# Altium integrated library FPGA Generic.IntLib: 1651 symbols (part 3 of 20)
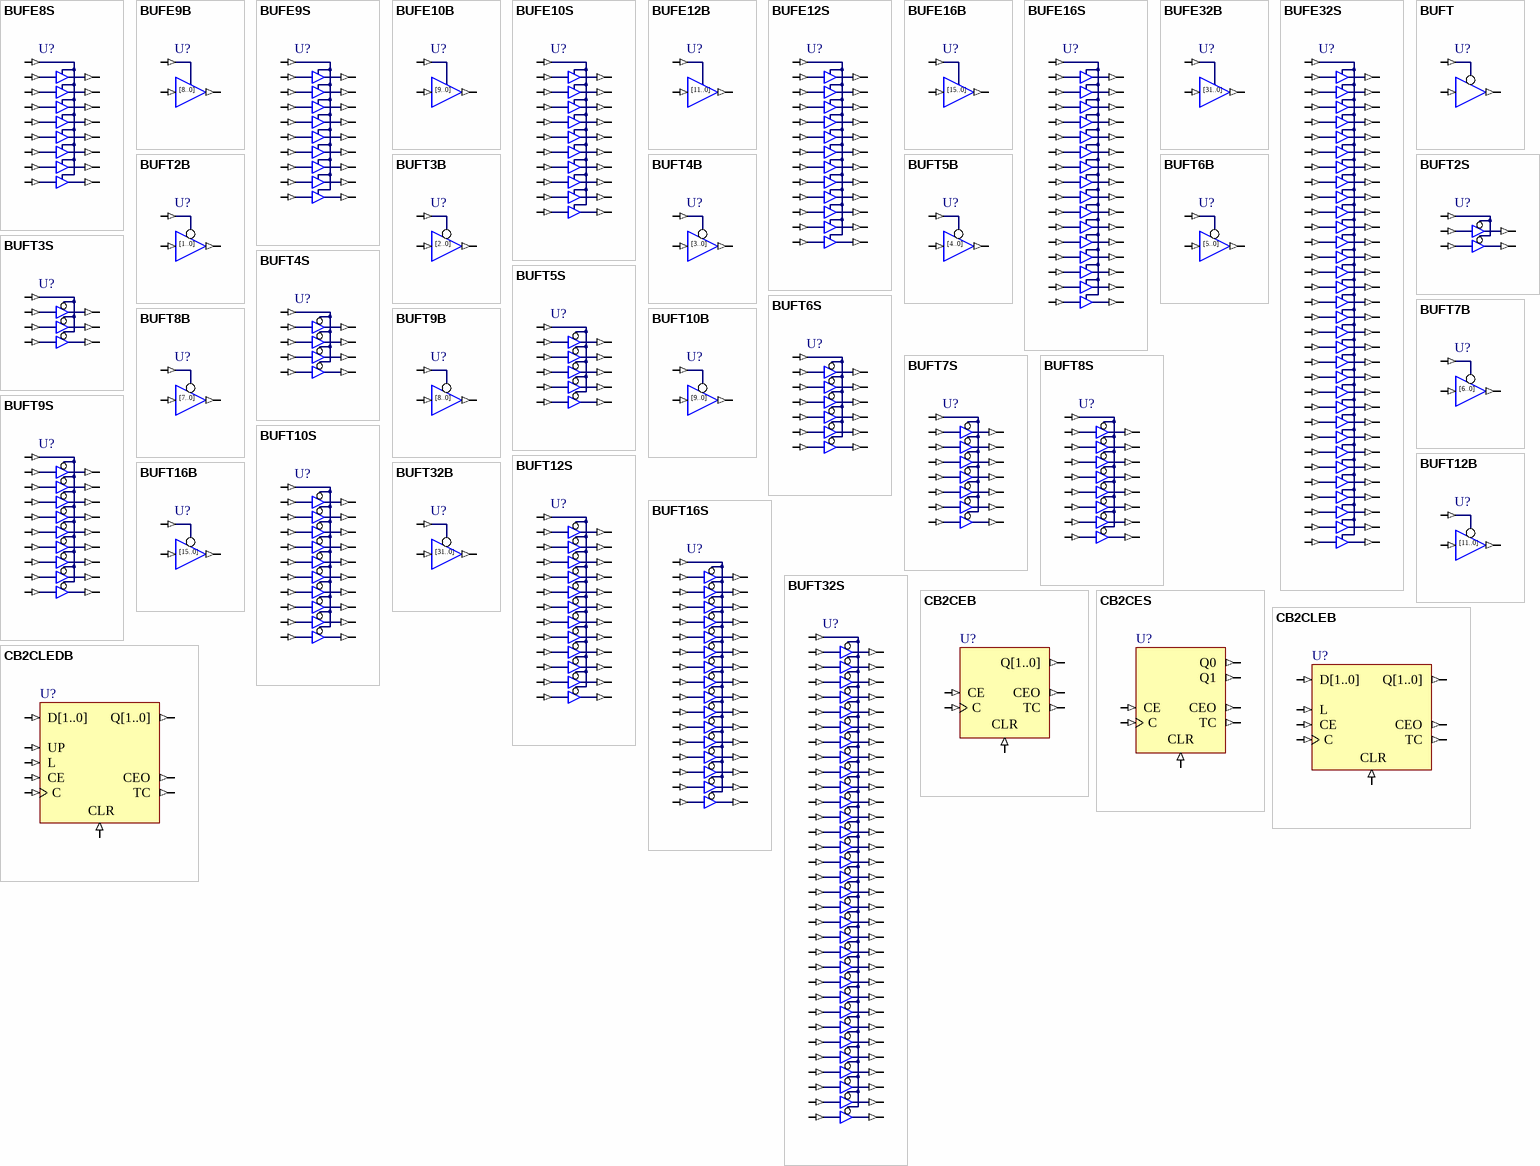
[diagram p45: symbols BUFE8S to CB2CLEDB]

## BUFT2S
designator U?
2-Bit 3-state Buffer with Active Low Enable, Single Pin Version; SubClass: BUFT; PortSize: 2; ArchiveName: GENERIC; VHDLIB_SIM: GENERIC_LIB; Published: 29-Jan-2004; Publisher: Altium Limited; LastRevisionNo: 1.00.00; HelpURL: CR0118 FPGA Generic Library Guide.pdf#page=126; ComponentLink1URL: CR0125 FPGA Buffer Resource Usage.pdf#page=55; ComponentLink1Description: Core &Resource Usage; FunctionalClass: Buffer; Enable: Low; PortStyle: Single Pin Version
pins: I0 (in), I1 (in), O0 Y0 (out), O1 Y1 (out), T (in)

## BUFT3B
designator U?
3-Bit 3-state Buffer with Active Low Enable, Bus Version; SubClass: BUFT; PortSize: 3; ArchiveName: GENERIC; VHDLIB_SIM: GENERIC_LIB; Published: 29-Jan-2004; Publisher: Altium Limited; LastRevisionNo: 1.00.00; HelpURL: CR0118 FPGA Generic Library Guide.pdf#page=126; ComponentLink1URL: CR0125 FPGA Buffer Resource Usage.pdf#page=56; ComponentLink1Description: Core &Resource Usage; FunctionalClass: Buffer; Enable: Low; PortStyle: Bus Version
pins: I[2..0] (in), O[2..0] (out), T (in)
text: [2..0]

## BUFT3S
designator U?
3-Bit 3-state Buffer with Active Low Enable, Single Pin Version; SubClass: BUFT; PortSize: 3; ArchiveName: GENERIC; VHDLIB_SIM: GENERIC_LIB; Published: 29-Jan-2004; Publisher: Altium Limited; LastRevisionNo: 1.00.00; HelpURL: CR0118 FPGA Generic Library Guide.pdf#page=126; ComponentLink1URL: CR0125 FPGA Buffer Resource Usage.pdf#page=57; ComponentLink1Description: Core &Resource Usage; FunctionalClass: Buffer; Enable: Low; PortStyle: Single Pin Version
pins: I0 (in), I1 (in), I2 (in), O0 Y0 (out), O1 Y1 (out), O2 Y2 (out), T (in)

## BUFT4B
designator U?
4-Bit 3-state Buffer with Active Low Enable, Bus Version; SubClass: BUFT; PortSize: 4; ArchiveName: GENERIC; VHDLIB_SIM: GENERIC_LIB; Published: 29-Jan-2004; Publisher: Altium Limited; LastRevisionNo: 1.00.00; HelpURL: CR0118 FPGA Generic Library Guide.pdf#page=126; ComponentLink1URL: CR0125 FPGA Buffer Resource Usage.pdf#page=58; ComponentLink1Description: Core &Resource Usage; FunctionalClass: Buffer; Enable: Low; PortStyle: Bus Version
pins: I[3..0] (in), O[3..0] (out), T (in)
text: [3..0]

## BUFT4S
designator U?
4-Bit 3-state Buffer with Active Low Enable, Single Pin Version; XilinxEquivalent: BUFT4; SubClass: BUFT; PortSize: 4; ArchiveName: GENERIC; VHDLIB_SIM: GENERIC_LIB; Published: 29-Jan-2004; Publisher: Altium Limited; LastRevisionNo: 1.00.00; HelpURL: CR0118 FPGA Generic Library Guide.pdf#page=126; ComponentLink1URL: CR0125 FPGA Buffer Resource Usage.pdf#page=59; ComponentLink1Description: Core &Resource Usage; FunctionalClass: Buffer; Enable: Low; PortStyle: Single Pin Version
pins: I0 (in), I1 (in), I2 (in), I3 (in), O0 Y0 (out), O1 Y1 (out), O2 Y2 (out), O3 Y3 (out), T (in)

## BUFT5B
designator U?
5-Bit 3-state Buffer with Active Low Enable, Bus Version; SubClass: BUFT; PortSize: 5; ArchiveName: GENERIC; VHDLIB_SIM: GENERIC_LIB; Published: 29-Jan-2004; Publisher: Altium Limited; LastRevisionNo: 1.00.00; HelpURL: CR0118 FPGA Generic Library Guide.pdf#page=126; ComponentLink1URL: CR0125 FPGA Buffer Resource Usage.pdf#page=60; ComponentLink1Description: Core &Resource Usage; FunctionalClass: Buffer; Enable: Low; PortStyle: Bus Version
pins: I[4..0] (in), O[4..0] (out), T (in)
text: [4..0]

## BUFT5S
designator U?
5-Bit 3-state Buffer with Active Low Enable, Single Pin Version; SubClass: BUFT; PortSize: 5; ArchiveName: GENERIC; VHDLIB_SIM: GENERIC_LIB; Published: 29-Jan-2004; Publisher: Altium Limited; LastRevisionNo: 1.00.00; HelpURL: CR0118 FPGA Generic Library Guide.pdf#page=126; ComponentLink1URL: CR0125 FPGA Buffer Resource Usage.pdf#page=61; ComponentLink1Description: Core &Resource Usage; FunctionalClass: Buffer; Enable: Low; PortStyle: Single Pin Version
pins: I0 (in), I1 (in), I2 (in), I3 (in), I4 (in), O0 Y0 (out), O1 Y1 (out), O2 Y2 (out), O3 Y3 (out), O4 Y4 (out), T (in)

## BUFT6B
designator U?
6-Bit 3-state Buffer with Active Low Enable, Bus Version; SubClass: BUFT; PortSize: 6; ArchiveName: GENERIC; VHDLIB_SIM: GENERIC_LIB; Published: 29-Jan-2004; Publisher: Altium Limited; LastRevisionNo: 1.00.00; HelpURL: CR0118 FPGA Generic Library Guide.pdf#page=126; ComponentLink1URL: CR0125 FPGA Buffer Resource Usage.pdf#page=62; ComponentLink1Description: Core &Resource Usage; FunctionalClass: Buffer; Enable: Low; PortStyle: Bus Version
pins: I[5..0] (in), O[5..0] (out), T (in)
text: [5..0]

## BUFT6S
designator U?
6-Bit 3-state Buffer with Active Low Enable, Single Pin Version; SubClass: BUFT; PortSize: 6; ArchiveName: GENERIC; VHDLIB_SIM: GENERIC_LIB; Published: 29-Jan-2004; Publisher: Altium Limited; LastRevisionNo: 1.00.00; HelpURL: CR0118 FPGA Generic Library Guide.pdf#page=126; ComponentLink1URL: CR0125 FPGA Buffer Resource Usage.pdf#page=63; ComponentLink1Description: Core &Resource Usage; FunctionalClass: Buffer; Enable: Low; PortStyle: Single Pin Version
pins: I0 (in), I1 (in), I2 (in), I3 (in), I4 (in), I5 (in), O0 Y0 (out), O1 Y1 (out), O2 Y2 (out), O3 Y3 (out), O4 Y4 (out), O5 Y5 (out), T (in)

## BUFT7B
designator U?
7-Bit 3-state Buffer with Active Low Enable, Bus Version; SubClass: BUFT; PortSize: 7; ArchiveName: GENERIC; VHDLIB_SIM: GENERIC_LIB; Published: 29-Jan-2004; Publisher: Altium Limited; LastRevisionNo: 1.00.00; HelpURL: CR0118 FPGA Generic Library Guide.pdf#page=126; ComponentLink1URL: CR0125 FPGA Buffer Resource Usage.pdf#page=64; ComponentLink1Description: Core &Resource Usage; FunctionalClass: Buffer; Enable: Low; PortStyle: Bus Version
pins: I[6..0] (in), O[6..0] (out), T (in)
text: [6..0]

## BUFT7S
designator U?
7-Bit 3-state Buffer with Active Low Enable, Single Pin Version; SubClass: BUFT; PortSize: 7; ArchiveName: GENERIC; VHDLIB_SIM: GENERIC_LIB; Published: 29-Jan-2004; Publisher: Altium Limited; LastRevisionNo: 1.00.00; HelpURL: CR0118 FPGA Generic Library Guide.pdf#page=126; ComponentLink1URL: CR0125 FPGA Buffer Resource Usage.pdf#page=65; ComponentLink1Description: Core &Resource Usage; FunctionalClass: Buffer; Enable: Low; PortStyle: Single Pin Version
pins: I0 (in), I1 (in), I2 (in), I3 (in), I4 (in), I5 (in), I6 (in), O0 Y0 (out), O1 Y1 (out), O2 Y2 (out), O3 Y3 (out), O4 Y4 (out), O5 Y5 (out), O6 Y6 (out), T (in)

## BUFT8B
designator U?
8-Bit 3-state Buffer with Active Low Enable, Bus Version; XilinxEquivalent: BUFT8; SubClass: BUFT; PortSize: 8; ArchiveName: GENERIC; VHDLIB_SIM: GENERIC_LIB; Published: 29-Jan-2004; Publisher: Altium Limited; LastRevisionNo: 1.00.00; HelpURL: CR0118 FPGA Generic Library Guide.pdf#page=126; ComponentLink1URL: CR0125 FPGA Buffer Resource Usage.pdf#page=66; ComponentLink1Description: Core &Resource Usage; FunctionalClass: Buffer; Enable: Low; PortStyle: Bus Version
pins: I[7..0] (in), O[7..0] (out), T (in)
text: [7..0]

## BUFT8S
designator U?
8-Bit 3-state Buffer with Active Low Enable, Single Pin Version; SubClass: BUFT; PortSize: 8; ArchiveName: GENERIC; VHDLIB_SIM: GENERIC_LIB; Published: 29-Jan-2004; Publisher: Altium Limited; LastRevisionNo: 1.00.00; HelpURL: CR0118 FPGA Generic Library Guide.pdf#page=126; ComponentLink1URL: CR0125 FPGA Buffer Resource Usage.pdf#page=67; ComponentLink1Description: Core &Resource Usage; FunctionalClass: Buffer; Enable: Low; PortStyle: Single Pin Version
pins: I0 (in), I1 (in), I2 (in), I3 (in), I4 (in), I5 (in), I6 (in), I7 (in), O0 Y0 (out), O1 Y1 (out), O2 Y2 (out), O3 Y3 (out), O4 Y4 (out), O5 Y5 (out), O6 Y6 (out), O7 Y7 (out), T (in)

## BUFT9B
designator U?
9-Bit 3-state Buffer with Active Low Enable, Bus Version; SubClass: BUFT; PortSize: 9; ArchiveName: GENERIC; VHDLIB_SIM: GENERIC_LIB; Published: 29-Jan-2004; Publisher: Altium Limited; LastRevisionNo: 1.00.00; HelpURL: CR0118 FPGA Generic Library Guide.pdf#page=126; ComponentLink1URL: CR0125 FPGA Buffer Resource Usage.pdf#page=68; ComponentLink1Description: Core &Resource Usage; FunctionalClass: Buffer; Enable: Low; PortStyle: Bus Version
pins: I[8..0] (in), O[8..0] (out), T (in)
text: [8..0]

## BUFT9S
designator U?
9-Bit 3-state Buffer with Active Low Enable, Single Pin Version; SubClass: BUFT; PortSize: 9; ArchiveName: GENERIC; VHDLIB_SIM: GENERIC_LIB; Published: 29-Jan-2004; Publisher: Altium Limited; LastRevisionNo: 1.00.00; HelpURL: CR0118 FPGA Generic Library Guide.pdf#page=126; ComponentLink1URL: CR0125 FPGA Buffer Resource Usage.pdf#page=69; ComponentLink1Description: Core &Resource Usage; FunctionalClass: Buffer; Enable: Low; PortStyle: Single Pin Version
pins: I0 (in), I1 (in), I2 (in), I3 (in), I4 (in), I5 (in), I6 (in), I7 (in), I8 (in), O0 Y0 (out), O1 Y1 (out), O2 Y2 (out), O3 Y3 (out), O4 Y4 (out), O5 Y5 (out), O6 Y6 (out), O7 Y7 (out), O8 Y8 (out), T (in)

## BUFT10B
designator U?
10-Bit 3-state Buffer with Active Low Enable, Bus Version; SubClass: BUFT; PortSize: 10; ArchiveName: GENERIC; VHDLIB_SIM: GENERIC_LIB; Published: 29-Jan-2004; Publisher: Altium Limited; LastRevisionNo: 1.00.00; HelpURL: CR0118 FPGA Generic Library Guide.pdf#page=126; ComponentLink1URL: CR0125 FPGA Buffer Resource Usage.pdf#page=70; ComponentLink1Description: Core &Resource Usage; FunctionalClass: Buffer; Enable: Low; PortStyle: Bus Version
pins: I[9..0] (in), O[9..0] (out), T (in)
text: [9..0]

## BUFT10S
designator U?
10-Bit 3-state Buffer with Active Low Enable, Single Pin Version; SubClass: BUFT; PortSize: 10; ArchiveName: GENERIC; VHDLIB_SIM: GENERIC_LIB; Published: 29-Jan-2004; Publisher: Altium Limited; LastRevisionNo: 1.00.00; HelpURL: CR0118 FPGA Generic Library Guide.pdf#page=126; ComponentLink1URL: CR0125 FPGA Buffer Resource Usage.pdf#page=71; ComponentLink1Description: Core &Resource Usage; FunctionalClass: Buffer; Enable: Low; PortStyle: Single Pin Version
pins: I0 (in), I1 (in), I2 (in), I3 (in), I4 (in), I5 (in), I6 (in), I7 (in), I8 (in), I9 (in), O0 Y0 (out), O1 Y1 (out), O2 Y2 (out), O3 Y3 (out), O4 Y4 (out), O5 Y5 (out), O6 Y6 (out), O7 Y7 (out), O8 Y8 (out), O9 Y9 (out), T (in)

## BUFT12B
designator U?
12-Bit 3-state Buffer with Active Low Enable, Bus Version; SubClass: BUFT; PortSize: 12; ArchiveName: GENERIC; VHDLIB_SIM: GENERIC_LIB; Published: 29-Jan-2004; Publisher: Altium Limited; LastRevisionNo: 1.00.00; HelpURL: CR0118 FPGA Generic Library Guide.pdf#page=126; ComponentLink1URL: CR0125 FPGA Buffer Resource Usage.pdf#page=72; ComponentLink1Description: Core &Resource Usage; FunctionalClass: Buffer; Enable: Low; PortStyle: Bus Version
pins: I[11..0] (in), O[11..0] (out), T (in)
text: [11..0]

## BUFT12S
designator U?
12-Bit 3-state Buffer with Active Low Enable, Single Pin Version; SubClass: BUFT; PortSize: 12; ArchiveName: GENERIC; VHDLIB_SIM: GENERIC_LIB; Published: 29-Jan-2004; Publisher: Altium Limited; LastRevisionNo: 1.00.00; HelpURL: CR0118 FPGA Generic Library Guide.pdf#page=126; ComponentLink1URL: CR0125 FPGA Buffer Resource Usage.pdf#page=73; ComponentLink1Description: Core &Resource Usage; FunctionalClass: Buffer; Enable: Low; PortStyle: Single Pin Version
pins: I0 (in), I1 (in), I2 (in), I3 (in), I4 (in), I5 (in), I6 (in), I7 (in), I8 (in), I9 (in), I10 (in), I11 (in), O0 Y0 (out), O1 Y1 (out), O2 Y2 (out), O3 Y3 (out), O4 Y4 (out), O5 Y5 (out), O6 Y6 (out), O7 Y7 (out), O8 Y8 (out), O9 Y9 (out), O10 Y10 (out), O11 Y11 (out), T (in)

## BUFT16B
designator U?
16-Bit 3-state Buffer with Active Low Enable, Bus Version; XilinxEquivalent: BUFT16; SubClass: BUFT; PortSize: 16; ArchiveName: GENERIC; VHDLIB_SIM: GENERIC_LIB; Published: 29-Jan-2004; Publisher: Altium Limited; LastRevisionNo: 1.00.00; HelpURL: CR0118 FPGA Generic Library Guide.pdf#page=126; ComponentLink1URL: CR0125 FPGA Buffer Resource Usage.pdf#page=74; ComponentLink1Description: Core &Resource Usage; FunctionalClass: Buffer; Enable: Low; PortStyle: Bus Version
pins: I[15..0] (in), O[15..0] (out), T (in)
text: [15..0]

## BUFT16S
designator U?
16-Bit 3-state Buffer with Active Low Enable, Single Pin Version; SubClass: BUFT; PortSize: 16; ArchiveName: GENERIC; VHDLIB_SIM: GENERIC_LIB; Published: 29-Jan-2004; Publisher: Altium Limited; LastRevisionNo: 1.00.00; HelpURL: CR0118 FPGA Generic Library Guide.pdf#page=126; ComponentLink1URL: CR0125 FPGA Buffer Resource Usage.pdf#page=75; ComponentLink1Description: Core &Resource Usage; FunctionalClass: Buffer; Enable: Low; PortStyle: Single Pin Version
pins: I0 (in), I1 (in), I2 (in), I3 (in), I4 (in), I5 (in), I6 (in), I7 (in), I8 (in), I9 (in), I10 (in), I11 (in), I12 (in), I13 (in), I14 (in), I15 (in), O0 Y0 (out), O1 Y1 (out), O2 Y2 (out), O3 Y3 (out), O4 Y4 (out), O5 Y5 (out), O6 Y6 (out), O7 Y7 (out), O8 Y8 (out), O9 Y9 (out), O10 Y10 (out), O11 Y11 (out), O12 Y12 (out), O13 Y13 (out), O14 Y14 (out), O15 Y15 (out), T (in)

## BUFT32B
designator U?
32-Bit 3-state Buffer with Active Low Enable, Bus Version; SubClass: BUFT; PortSize: 32; ArchiveName: GENERIC; VHDLIB_SIM: GENERIC_LIB; Published: 29-Jan-2004; Publisher: Altium Limited; LastRevisionNo: 1.00.00; HelpURL: CR0118 FPGA Generic Library Guide.pdf#page=126; ComponentLink1URL: CR0125 FPGA Buffer Resource Usage.pdf#page=76; ComponentLink1Description: Core &Resource Usage; FunctionalClass: Buffer; Enable: Low; PortStyle: Bus Version
pins: I[31..0] (in), O[31..0] (out), T (in)
text: [31..0]

## BUFT32S
designator U?
32-Bit 3-state Buffer with Active Low Enable, Single Pin Version; SubClass: BUFT; PortSize: 32; ArchiveName: GENERIC; VHDLIB_SIM: GENERIC_LIB; Published: 29-Jan-2004; Publisher: Altium Limited; LastRevisionNo: 1.00.00; HelpURL: CR0118 FPGA Generic Library Guide.pdf#page=126; ComponentLink1URL: CR0125 FPGA Buffer Resource Usage.pdf#page=77; ComponentLink1Description: Core &Resource Usage; FunctionalClass: Buffer; Enable: Low; PortStyle: Single Pin Version
pins: I0 (in), I1 (in), I2 (in), I3 (in), I4 (in), I5 (in), I6 (in), I7 (in), I8 (in), I9 (in), I10 (in), I11 (in), I12 (in), I13 (in), I14 (in), I15 (in), I16 (in), I17 (in), I18 (in), I19 (in), I20 (in), I21 (in), I22 (in), I23 (in), I24 (in), I25 (in), I26 (in), I27 (in), I28 (in), I29 (in), I30 (in), I31 (in), O0 Y0 (out), O1 Y1 (out), O2 Y2 (out), O3 Y3 (out), O4 Y4 (out), O5 Y5 (out), O6 Y6 (out), O7 Y7 (out), O8 Y8 (out), O9 Y9 (out), O10 Y10 (out), O11 Y11 (out), O12 Y12 (out), O13 Y13 (out), O14 Y14 (out), O15 Y15 (out), O16 Y16 (out), O17 Y17 (out), O18 Y18 (out), O19 Y19 (out), O20 Y20 (out), O21 Y21 (out), O22 Y22 (out), O23 Y23 (out), O24 Y24 (out), O25 Y25 (out), O26 Y26 (out), O27 Y27 (out), O28 Y28 (out), O29 Y29 (out), O30 Y30 (out), O31 Y31 (out), T (in)

## CB2CEB
designator U?
2-Bit Cascadable Binary Counters with Clock Enable and Asynchronous Clear, Bus Version; ClockTrigger: Rising; Enable: High; PortSize: 2; ArchiveName: GENERIC; VHDLIB_SIM: GENERIC_LIB; Published: 29-Jan-2004; Publisher: Altium Limited; LastRevisionNo: 1.00.00; HelpURL: CR0118 FPGA Generic Library Guide.pdf#page=128; ComponentLink1URL: CR0130 FPGA Counter Resource Usage.pdf#page=3; ComponentLink1Description: Core &Resource Usage; FunctionalClass: Counter; SubClass: Binary; Reset: Asynchronous; PortType: Bus Version
pins: C (in), CE (in), CEO (out), CLR (in), Q[1..0] (out), TC (out)

## CB2CES
designator U?
2-Bit Cascadable Binary Counters with Clock Enable and Asynchronous Clear, Single Pin Version; XilinxEquivalent: CB2CE; ClockTrigger: Rising; Enable: High; PortSize: 2; ArchiveName: GENERIC; VHDLIB_SIM: GENERIC_LIB; Published: 29-Jan-2004; Publisher: Altium Limited; LastRevisionNo: 1.00.00; HelpURL: CR0118 FPGA Generic Library Guide.pdf#page=128; ComponentLink1URL: CR0130 FPGA Counter Resource Usage.pdf#page=4; ComponentLink1Description: Core &Resource Usage; FunctionalClass: Counter; SubClass: Binary; Reset: Asynchronous; PortType: Single Pin Version
pins: C (in), CE (in), CEO (out), CLR (in), Q0 (out), Q1 (out), TC (out)

## CB2CLEB
designator U?
2-Bit Loadable Cascadable Binary Counter with Clock Enable and Asynchronous Clear, Bus Version; ClockTrigger: Rising; Enable: High; Loadable: True; PortSize: 2; ArchiveName: GENERIC; VHDLIB_SIM: GENERIC_LIB; Published: 29-Jan-2004; Publisher: Altium Limited; LastRevisionNo: 1.00.00; HelpURL: CR0118 FPGA Generic Library Guide.pdf#page=130; ComponentLink1URL: CR0130 FPGA Counter Resource Usage.pdf#page=5; ComponentLink1Description: Core &Resource Usage; FunctionalClass: Counter; SubClass: Binary; Reset: Asynchronous; PortType: Bus Version
pins: C (in), CE (in), CEO (out), CLR (in), D[1..0] (in), L (in), Q[1..0] (out), TC (out)

## CB2CLEDB
designator U?
2-Bit Loadable Cascadable Bidirectional Binary Counter with Clock Enable and Asynchronous Clear, Bus Version; ClockTrigger: Rising; Enable: High; Loadable: True; PortSize: 2; ArchiveName: GENERIC; VHDLIB_SIM: GENERIC_LIB; Published: 29-Jan-2004; Publisher: Altium Limited; LastRevisionNo: 1.00.00; HelpURL: CR0118 FPGA Generic Library Guide.pdf#page=132; ComponentLink1URL: CR0130 FPGA Counter Resource Usage.pdf#page=6; ComponentLink1Description: Core &Resource Usage; FunctionalClass: Counter; SubClass: Binary; Reset: Asynchronous; Direction: Bidirectional; PortType: Bus Version
pins: C (in), CE (in), CEO (out), CLR (in), D[1..0] (in), L (in), Q[1..0] (out), TC (out), UP (in)

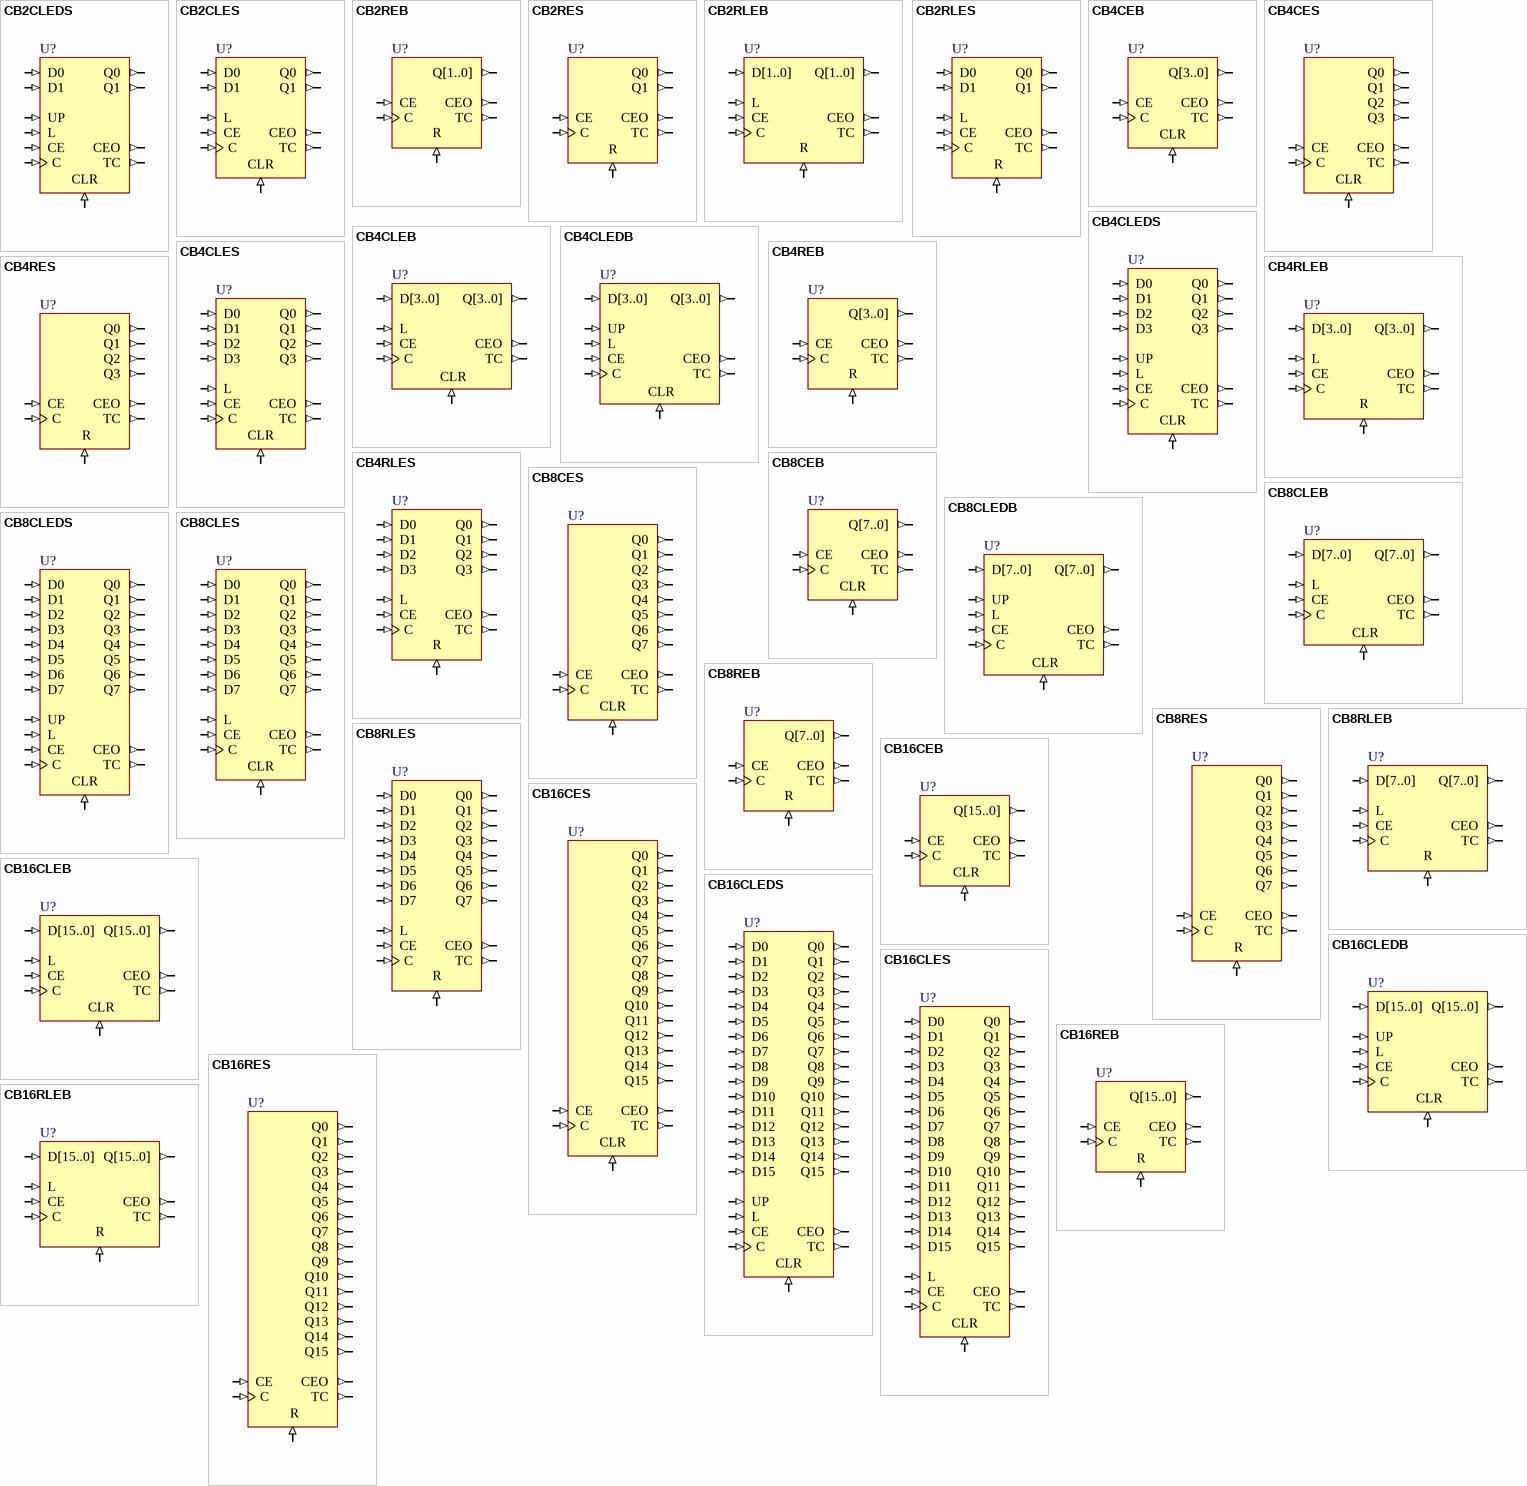
[diagram p5: symbols CB2CLEDS to CB16RLEB]

## CB2CLEDS
designator U?
2-Bit Loadable Cascadable Bidirectional Binary Counter with Clock Enable and Asynchronous Clear, Single Pin Version; XilinxEquivalent: CB2CLED; ClockTrigger: Rising; Enable: High; Loadable: True; PortSize: 2; ArchiveName: GENERIC; VHDLIB_SIM: GENERIC_LIB; Published: 29-Jan-2004; Publisher: Altium Limited; LastRevisionNo: 1.00.00; HelpURL: CR0118 FPGA Generic Library Guide.pdf#page=132; ComponentLink1URL: CR0130 FPGA Counter Resource Usage.pdf#page=7; ComponentLink1Description: Core &Resource Usage; FunctionalClass: Counter; SubClass: Binary; Reset: Asynchronous; Direction: Bidirectional; PortType: Single Pin Version
pins: C (in), CE (in), CEO (out), CLR (in), D0 (in), D1 (in), L (in), Q0 (out), Q1 (out), TC (out), UP (in)

## CB2CLES
designator U?
2-Bit Loadable Cascadable Binary Counter with Clock Enable and Asynchronous Clear, Single Pin Version; XilinxEquivalent: CB2CLE; ClockTrigger: Rising; Enable: High; Loadable: True; PortSize: 2; ArchiveName: GENERIC; VHDLIB_SIM: GENERIC_LIB; Published: 29-Jan-2004; Publisher: Altium Limited; LastRevisionNo: 1.00.00; HelpURL: CR0118 FPGA Generic Library Guide.pdf#page=130; ComponentLink1URL: CR0130 FPGA Counter Resource Usage.pdf#page=8; ComponentLink1Description: Core &Resource Usage; FunctionalClass: Counter; SubClass: Binary; Reset: Asynchronous; PortType: Single Pin Version
pins: C (in), CE (in), CEO (out), CLR (in), D0 (in), D1 (in), L (in), Q0 (out), Q1 (out), TC (out)

## CB2REB
designator U?
2-Bit Cascadable Binary Counter with Clock Enable and Synchronous Reset, Bus Version; ClockTrigger: Rising; Enable: High; PortSize: 2; ArchiveName: GENERIC; VHDLIB_SIM: GENERIC_LIB; Published: 29-Jan-2004; Publisher: Altium Limited; LastRevisionNo: 1.00.00; HelpURL: CR0118 FPGA Generic Library Guide.pdf#page=134; ComponentLink1URL: CR0130 FPGA Counter Resource Usage.pdf#page=9; ComponentLink1Description: Core &Resource Usage; FunctionalClass: Counter; SubClass: Binary; Reset: Synchronous; PortType: Bus Version
pins: C (in), CE (in), CEO (out), Q[1..0] (out), R (in), TC (out)

## CB2RES
designator U?
2-Bit Cascadable Binary Counter with Clock Enable and Synchronous Reset, Single Pin Version; XilinxEquivalent: CB2RE; ClockTrigger: Rising; Enable: High; PortSize: 2; ArchiveName: GENERIC; VHDLIB_SIM: GENERIC_LIB; Published: 29-Jan-2004; Publisher: Altium Limited; LastRevisionNo: 1.00.00; HelpURL: CR0118 FPGA Generic Library Guide.pdf#page=134; ComponentLink1URL: CR0130 FPGA Counter Resource Usage.pdf#page=10; ComponentLink1Description: Core &Resource Usage; FunctionalClass: Counter; SubClass: Binary; Reset: Synchronous; PortType: Single Pin Version
pins: C (in), CE (in), CEO (out), Q0 (out), Q1 (out), R (in), TC (out)

## CB2RLEB
designator U?
2-Bit Loadable Cascadable Binary Counter with Clock Enable and Synchronous Reset, Bus Version; ClockTrigger: Rising; Enable: High; Loadable: True; PortSize: 2; ArchiveName: GENERIC; VHDLIB_SIM: GENERIC_LIB; Published: 29-Jan-2004; Publisher: Altium Limited; LastRevisionNo: 1.00.00; HelpURL: CR0118 FPGA Generic Library Guide.pdf#page=136; ComponentLink1URL: CR0130 FPGA Counter Resource Usage.pdf#page=11; ComponentLink1Description: Core &Resource Usage; FunctionalClass: Counter; SubClass: Binary; Reset: Synchronous; PortType: Bus Version
pins: C (in), CE (in), CEO (out), D[1..0] (in), L (in), Q[1..0] (out), R (in), TC (out)

## CB2RLES
designator U?
2-Bit Loadable Cascadable Binary Counter with Clock Enable and Synchronous Reset, Single Pin Version; XilinxEquivalent: CB2RLE; ClockTrigger: Rising; Enable: High; Loadable: True; PortSize: 2; ArchiveName: GENERIC; VHDLIB_SIM: GENERIC_LIB; Published: 29-Jan-2004; Publisher: Altium Limited; LastRevisionNo: 1.00.00; HelpURL: CR0118 FPGA Generic Library Guide.pdf#page=136; ComponentLink1URL: CR0130 FPGA Counter Resource Usage.pdf#page=12; ComponentLink1Description: Core &Resource Usage; FunctionalClass: Counter; SubClass: Binary; Reset: Synchronous; PortType: Single Pin Version
pins: C (in), CE (in), CEO (out), D0 (in), D1 (in), L (in), Q0 (out), Q1 (out), R (in), TC (out)

## CB4CEB
designator U?
4-Bit Cascadable Binary Counters with Clock Enable and Asynchronous Clear, Bus Version; ClockTrigger: Rising; Enable: High; PortSize: 4; ArchiveName: GENERIC; VHDLIB_SIM: GENERIC_LIB; Published: 29-Jan-2004; Publisher: Altium Limited; LastRevisionNo: 1.00.00; HelpURL: CR0118 FPGA Generic Library Guide.pdf#page=128; ComponentLink1URL: CR0130 FPGA Counter Resource Usage.pdf#page=13; ComponentLink1Description: Core &Resource Usage; FunctionalClass: Counter; SubClass: Binary; Reset: Asynchronous; PortType: Bus Version
pins: C (in), CE (in), CEO (out), CLR (in), Q[3..0] (out), TC (out)

## CB4CES
designator U?
4-Bit Cascadable Binary Counters with Clock Enable and Asynchronous Clear, Single Pin Version; XilinxEquivalent: CB4CE; ClockTrigger: Rising; Enable: High; PortSize: 4; ArchiveName: GENERIC; VHDLIB_SIM: GENERIC_LIB; Published: 29-Jan-2004; Publisher: Altium Limited; LastRevisionNo: 1.00.00; HelpURL: CR0118 FPGA Generic Library Guide.pdf#page=128; ComponentLink1URL: CR0130 FPGA Counter Resource Usage.pdf#page=14; ComponentLink1Description: Core &Resource Usage; FunctionalClass: Counter; SubClass: Binary; Reset: Asynchronous; PortType: Single Pin Version
pins: C (in), CE (in), CEO (out), CLR (in), Q0 (out), Q1 (out), Q2 (out), Q3 (out), TC (out)

## CB4CLEB
designator U?
4-Bit Loadable Cascadable Binary Counter with Clock Enable and Asynchronous Clear, Bus Version; ClockTrigger: Rising; Enable: High; Loadable: True; PortSize: 4; ArchiveName: GENERIC; VHDLIB_SIM: GENERIC_LIB; Published: 29-Jan-2004; Publisher: Altium Limited; LastRevisionNo: 1.00.00; HelpURL: CR0118 FPGA Generic Library Guide.pdf#page=130; ComponentLink1URL: CR0130 FPGA Counter Resource Usage.pdf#page=15; ComponentLink1Description: Core &Resource Usage; FunctionalClass: Counter; SubClass: Binary; Reset: Asynchronous; PortType: Bus Version
pins: C (in), CE (in), CEO (out), CLR (in), D[3..0] (in), L (in), Q[3..0] (out), TC (out)

## CB4CLEDB
designator U?
4-Bit Loadable Cascadable Bidirectional Binary Counter with Clock Enable and Asynchronous Clear, Bus Version; ClockTrigger: Rising; Enable: High; Loadable: True; PortSize: 4; ArchiveName: GENERIC; VHDLIB_SIM: GENERIC_LIB; Published: 29-Jan-2004; Publisher: Altium Limited; LastRevisionNo: 1.00.00; HelpURL: CR0118 FPGA Generic Library Guide.pdf#page=132; ComponentLink1URL: CR0130 FPGA Counter Resource Usage.pdf#page=16; ComponentLink1Description: Core &Resource Usage; FunctionalClass: Counter; SubClass: Binary; Reset: Asynchronous; Direction: Bidirectional; PortType: Bus Version
pins: C (in), CE (in), CEO (out), CLR (in), D[3..0] (in), L (in), Q[3..0] (out), TC (out), UP (in)

## CB4CLEDS
designator U?
4-Bit Loadable Cascadable Bidirectional Binary Counter with Clock Enable and Asynchronous Clear, Single Pin Version; XilinxEquivalent: CB4CLED; ClockTrigger: Rising; Enable: High; Loadable: True; PortSize: 4; ArchiveName: GENERIC; VHDLIB_SIM: GENERIC_LIB; Published: 29-Jan-2004; Publisher: Altium Limited; LastRevisionNo: 1.00.00; HelpURL: CR0118 FPGA Generic Library Guide.pdf#page=132; ComponentLink1URL: CR0130 FPGA Counter Resource Usage.pdf#page=17; ComponentLink1Description: Core &Resource Usage; FunctionalClass: Counter; SubClass: Binary; Reset: Asynchronous; Direction: Bidirectional; PortType: Single Pin Version
pins: C (in), CE (in), CEO (out), CLR (in), D0 (in), D1 (in), D2 (in), D3 (in), L (in), Q0 (out), Q1 (out), Q2 (out), Q3 (out), TC (out), UP (in)

## CB4CLES
designator U?
4-Bit Loadable Cascadable Binary Counter with Clock Enable and Asynchronous Clear, Single Pin Version; XilinxEquivalent: CB4CLE; ClockTrigger: Rising; Enable: High; Loadable: True; PortSize: 4; ArchiveName: GENERIC; VHDLIB_SIM: GENERIC_LIB; Published: 29-Jan-2004; Publisher: Altium Limited; LastRevisionNo: 1.00.00; HelpURL: CR0118 FPGA Generic Library Guide.pdf#page=130; ComponentLink1URL: CR0130 FPGA Counter Resource Usage.pdf#page=18; ComponentLink1Description: Core &Resource Usage; FunctionalClass: Counter; SubClass: Binary; Reset: Asynchronous; PortType: Single Pin Version
pins: C (in), CE (in), CEO (out), CLR (in), D0 (in), D1 (in), D2 (in), D3 (in), L (in), Q0 (out), Q1 (out), Q2 (out), Q3 (out), TC (out)

## CB4REB
designator U?
4-Bit Cascadable Binary Counter with Clock Enable and Synchronous Reset, Bus Version; ClockTrigger: Rising; Enable: High; PortSize: 4; ArchiveName: GENERIC; VHDLIB_SIM: GENERIC_LIB; Published: 29-Jan-2004; Publisher: Altium Limited; LastRevisionNo: 1.00.00; HelpURL: CR0118 FPGA Generic Library Guide.pdf#page=134; ComponentLink1URL: CR0130 FPGA Counter Resource Usage.pdf#page=19; ComponentLink1Description: Core &Resource Usage; FunctionalClass: Counter; SubClass: Binary; Reset: Synchronous; PortType: Bus Version
pins: C (in), CE (in), CEO (out), Q[3..0] (out), R (in), TC (out)

## CB4RES
designator U?
4-Bit Cascadable Binary Counter with Clock Enable and Synchronous Reset, Single Pin Version; XilinxEquivalent: CB4RE; ClockTrigger: Rising; Enable: High; PortSize: 4; ArchiveName: GENERIC; VHDLIB_SIM: GENERIC_LIB; Published: 29-Jan-2004; Publisher: Altium Limited; LastRevisionNo: 1.00.00; HelpURL: CR0118 FPGA Generic Library Guide.pdf#page=134; ComponentLink1URL: CR0130 FPGA Counter Resource Usage.pdf#page=20; ComponentLink1Description: Core &Resource Usage; FunctionalClass: Counter; SubClass: Binary; Reset: Synchronous; PortType: Single Pin Version
pins: C (in), CE (in), CEO (out), Q0 (out), Q1 (out), Q2 (out), Q3 (out), R (in), TC (out)

## CB4RLEB
designator U?
4-Bit Loadable Cascadable Binary Counter with Clock Enable and Synchronous Reset, Bus Version; ClockTrigger: Rising; Enable: High; Loadable: True; PortSize: 4; ArchiveName: GENERIC; VHDLIB_SIM: GENERIC_LIB; Published: 29-Jan-2004; Publisher: Altium Limited; LastRevisionNo: 1.00.00; HelpURL: CR0118 FPGA Generic Library Guide.pdf#page=136; ComponentLink1URL: CR0130 FPGA Counter Resource Usage.pdf#page=21; ComponentLink1Description: Core &Resource Usage; FunctionalClass: Counter; SubClass: Binary; Reset: Synchronous; PortType: Bus Version
pins: C (in), CE (in), CEO (out), D[3..0] (in), L (in), Q[3..0] (out), R (in), TC (out)

## CB4RLES
designator U?
4-Bit Loadable Cascadable Binary Counter with Clock Enable and Synchronous Reset, Single Pin Version; XilinxEquivalent: CB4RLE; ClockTrigger: Rising; Enable: High; Loadable: True; PortSize: 4; ArchiveName: GENERIC; VHDLIB_SIM: GENERIC_LIB; Published: 29-Jan-2004; Publisher: Altium Limited; LastRevisionNo: 1.00.00; HelpURL: CR0118 FPGA Generic Library Guide.pdf#page=136; ComponentLink1URL: CR0130 FPGA Counter Resource Usage.pdf#page=22; ComponentLink1Description: Core &Resource Usage; FunctionalClass: Counter; SubClass: Binary; Reset: Synchronous; PortType: Single Pin Version
pins: C (in), CE (in), CEO (out), D0 (in), D1 (in), D2 (in), D3 (in), L (in), Q0 (out), Q1 (out), Q2 (out), Q3 (out), R (in), TC (out)

## CB8CEB
designator U?
8-Bit Cascadable Binary Counters with Clock Enable and Asynchronous Clear, Bus Version; XilinxEquivalent: CB8CE; ClockTrigger: Rising; Enable: High; PortSize: 8; ArchiveName: GENERIC; VHDLIB_SIM: GENERIC_LIB; Published: 29-Jan-2004; Publisher: Altium Limited; LastRevisionNo: 1.00.00; HelpURL: CR0118 FPGA Generic Library Guide.pdf#page=128; ComponentLink1URL: CR0130 FPGA Counter Resource Usage.pdf#page=23; ComponentLink1Description: Core &Resource Usage; FunctionalClass: Counter; SubClass: Binary; Reset: Asynchronous; PortType: Bus Version
pins: C (in), CE (in), CEO (out), CLR (in), Q[7..0] (out), TC (out)

## CB8CES
designator U?
8-Bit Cascadable Binary Counters with Clock Enable and Asynchronous Clear, Single Pin Version; ClockTrigger: Rising; Enable: High; PortSize: 8; ArchiveName: GENERIC; VHDLIB_SIM: GENERIC_LIB; Published: 29-Jan-2004; Publisher: Altium Limited; LastRevisionNo: 1.00.00; HelpURL: CR0118 FPGA Generic Library Guide.pdf#page=128; ComponentLink1URL: CR0130 FPGA Counter Resource Usage.pdf#page=24; ComponentLink1Description: Core &Resource Usage; FunctionalClass: Counter; SubClass: Binary; Reset: Asynchronous; PortType: Single Pin Version
pins: C (in), CE (in), CEO (out), CLR (in), Q0 (out), Q1 (out), Q2 (out), Q3 (out), Q4 (out), Q5 (out), Q6 (out), Q7 (out), TC (out)

## CB8CLEB
designator U?
8-Bit Loadable Cascadable Binary Counter with Clock Enable and Asynchronous Clear, Bus Version; XilinxEquivalent: CB8CLE; ClockTrigger: Rising; Enable: High; Loadable: True; PortSize: 8; ArchiveName: GENERIC; VHDLIB_SIM: GENERIC_LIB; Published: 29-Jan-2004; Publisher: Altium Limited; LastRevisionNo: 1.00.00; HelpURL: CR0118 FPGA Generic Library Guide.pdf#page=130; ComponentLink1URL: CR0130 FPGA Counter Resource Usage.pdf#page=25; ComponentLink1Description: Core &Resource Usage; FunctionalClass: Counter; SubClass: Binary; Reset: Asynchronous; PortType: Bus Version
pins: C (in), CE (in), CEO (out), CLR (in), D[7..0] (in), L (in), Q[7..0] (out), TC (out)

## CB8CLEDB
designator U?
8-Bit Loadable Cascadable Bidirectional Binary Counter with Clock Enable and Asynchronous Clear, Bus Version; XilinxEquivalent: CB8CLED; ClockTrigger: Rising; Enable: High; Loadable: True; PortSize: 8; ArchiveName: GENERIC; VHDLIB_SIM: GENERIC_LIB; Published: 29-Jan-2004; Publisher: Altium Limited; LastRevisionNo: 1.00.00; HelpURL: CR0118 FPGA Generic Library Guide.pdf#page=132; ComponentLink1URL: CR0130 FPGA Counter Resource Usage.pdf#page=26; ComponentLink1Description: Core &Resource Usage; FunctionalClass: Counter; SubClass: Binary; Reset: Asynchronous; Direction: Bidirectional; PortType: Bus Version
pins: C (in), CE (in), CEO (out), CLR (in), D[7..0] (in), L (in), Q[7..0] (out), TC (out), UP (in)

## CB8CLEDS
designator U?
8-Bit Loadable Cascadable Bidirectional Binary Counter with Clock Enable and Asynchronous Clear, Single Pin Version; ClockTrigger: Rising; Enable: High; Loadable: True; PortSize: 8; ArchiveName: GENERIC; VHDLIB_SIM: GENERIC_LIB; Published: 29-Jan-2004; Publisher: Altium Limited; LastRevisionNo: 1.00.00; HelpURL: CR0118 FPGA Generic Library Guide.pdf#page=132; ComponentLink1URL: CR0130 FPGA Counter Resource Usage.pdf#page=27; ComponentLink1Description: Core &Resource Usage; FunctionalClass: Counter; SubClass: Binary; Reset: Asynchronous; Direction: Bidirectional; PortType: Single Pin Version
pins: C (in), CE (in), CEO (out), CLR (in), D0 (in), D1 (in), D2 (in), D3 (in), D4 (in), D5 (in), D6 (in), D7 (in), L (in), Q0 (out), Q1 (out), Q2 (out), Q3 (out), Q4 (out), Q5 (out), Q6 (out), Q7 (out), TC (out), UP (in)

## CB8CLES
designator U?
8-Bit Loadable Cascadable Binary Counter with Clock Enable and Asynchronous Clear, Single Pin Version; ClockTrigger: Rising; Enable: High; Loadable: True; PortSize: 8; ArchiveName: GENERIC; VHDLIB_SIM: GENERIC_LIB; Published: 29-Jan-2004; Publisher: Altium Limited; LastRevisionNo: 1.00.00; HelpURL: CR0118 FPGA Generic Library Guide.pdf#page=130; ComponentLink1URL: CR0130 FPGA Counter Resource Usage.pdf#page=28; ComponentLink1Description: Core &Resource Usage; FunctionalClass: Counter; SubClass: Binary; Reset: Asynchronous; PortType: Single Pin Version
pins: C (in), CE (in), CEO (out), CLR (in), D0 (in), D1 (in), D2 (in), D3 (in), D4 (in), D5 (in), D6 (in), D7 (in), L (in), Q0 (out), Q1 (out), Q2 (out), Q3 (out), Q4 (out), Q5 (out), Q6 (out), Q7 (out), TC (out)

## CB8REB
designator U?
8-Bit Cascadable Binary Counter with Clock Enable and Synchronous Reset, Bus Version; XilinxEquivalent: CB8RE; ClockTrigger: Rising; Enable: High; PortSize: 8; ArchiveName: GENERIC; VHDLIB_SIM: GENERIC_LIB; Published: 29-Jan-2004; Publisher: Altium Limited; LastRevisionNo: 1.00.00; HelpURL: CR0118 FPGA Generic Library Guide.pdf#page=134; ComponentLink1URL: CR0130 FPGA Counter Resource Usage.pdf#page=29; ComponentLink1Description: Core &Resource Usage; FunctionalClass: Counter; SubClass: Binary; Reset: Synchronous; PortType: Bus Version
pins: C (in), CE (in), CEO (out), Q[7..0] (out), R (in), TC (out)

## CB8RES
designator U?
8-Bit Cascadable Binary Counter with Clock Enable and Synchronous Reset, Single Pin Version; ClockTrigger: Rising; Enable: High; PortSize: 8; ArchiveName: GENERIC; VHDLIB_SIM: GENERIC_LIB; Published: 29-Jan-2004; Publisher: Altium Limited; LastRevisionNo: 1.00.00; HelpURL: CR0118 FPGA Generic Library Guide.pdf#page=134; ComponentLink1URL: CR0130 FPGA Counter Resource Usage.pdf#page=30; ComponentLink1Description: Core &Resource Usage; FunctionalClass: Counter; SubClass: Binary; Reset: Synchronous; PortType: Single Pin Version
pins: C (in), CE (in), CEO (out), Q0 (out), Q1 (out), Q2 (out), Q3 (out), Q4 (out), Q5 (out), Q6 (out), Q7 (out), R (in), TC (out)

## CB8RLEB
designator U?
8-Bit Loadable Cascadable Binary Counter with Clock Enable and Synchronous Reset, Bus Version; XilinxEquivalent: CB8RLE; ClockTrigger: Rising; Enable: High; Loadable: True; PortSize: 8; ArchiveName: GENERIC; VHDLIB_SIM: GENERIC_LIB; Published: 29-Jan-2004; Publisher: Altium Limited; LastRevisionNo: 1.00.00; HelpURL: CR0118 FPGA Generic Library Guide.pdf#page=136; ComponentLink1URL: CR0130 FPGA Counter Resource Usage.pdf#page=31; ComponentLink1Description: Core &Resource Usage; FunctionalClass: Counter; SubClass: Binary; Reset: Synchronous; PortType: Bus Version
pins: C (in), CE (in), CEO (out), D[7..0] (in), L (in), Q[7..0] (out), R (in), TC (out)

## CB8RLES
designator U?
8-Bit Loadable Cascadable Binary Counter with Clock Enable and Synchronous Reset, Single Pin Version; ClockTrigger: Rising; Enable: High; Loadable: True; PortSize: 8; ArchiveName: GENERIC; VHDLIB_SIM: GENERIC_LIB; Published: 29-Jan-2004; Publisher: Altium Limited; LastRevisionNo: 1.00.00; HelpURL: CR0118 FPGA Generic Library Guide.pdf#page=136; ComponentLink1URL: CR0130 FPGA Counter Resource Usage.pdf#page=32; ComponentLink1Description: Core &Resource Usage; FunctionalClass: Counter; SubClass: Binary; Reset: Synchronous; PortType: Single Pin Version
pins: C (in), CE (in), CEO (out), D0 (in), D1 (in), D2 (in), D3 (in), D4 (in), D5 (in), D6 (in), D7 (in), L (in), Q0 (out), Q1 (out), Q2 (out), Q3 (out), Q4 (out), Q5 (out), Q6 (out), Q7 (out), R (in), TC (out)

## CB16CEB
designator U?
16-Bit Cascadable Binary Counters with Clock Enable and Asynchronous Clear, Bus Version; XilinxEquivalent: CB16CE; ClockTrigger: Rising; Enable: High; PortSize: 16; ArchiveName: GENERIC; VHDLIB_SIM: GENERIC_LIB; Published: 29-Jan-2004; Publisher: Altium Limited; LastRevisionNo: 1.00.00; HelpURL: CR0118 FPGA Generic Library Guide.pdf#page=128; ComponentLink1URL: CR0130 FPGA Counter Resource Usage.pdf#page=33; ComponentLink1Description: Core &Resource Usage; FunctionalClass: Counter; SubClass: Binary; Reset: Asynchronous; PortType: Bus Version
pins: C (in), CE (in), CEO (out), CLR (in), Q[15..0] (out), TC (out)

## CB16CES
designator U?
16-Bit Cascadable Binary Counters with Clock Enable and Asynchronous Clear, Single Pin Version; ClockTrigger: Rising; Enable: High; PortSize: 16; ArchiveName: GENERIC; VHDLIB_SIM: GENERIC_LIB; Published: 29-Jan-2004; Publisher: Altium Limited; LastRevisionNo: 1.00.00; HelpURL: CR0118 FPGA Generic Library Guide.pdf#page=128; ComponentLink1URL: CR0130 FPGA Counter Resource Usage.pdf#page=34; ComponentLink1Description: Core &Resource Usage; FunctionalClass: Counter; SubClass: Binary; Reset: Asynchronous; PortType: Single Pin Version
pins: C (in), CE (in), CEO (out), CLR (in), Q0 (out), Q1 (out), Q2 (out), Q3 (out), Q4 (out), Q5 (out), Q6 (out), Q7 (out), Q8 (out), Q9 (out), Q10 (out), Q11 (out), Q12 (out), Q13 (out), Q14 (out), Q15 (out), TC (out)

## CB16CLEB
designator U?
16-Bit Loadable Cascadable Binary Counters with Clock Enable and Asynchronous Clear, Bus Version; XilinxEquivalent: CB16CLE; ClockTrigger: Rising; Enable: High; Loadable: True; PortSize: 16; ArchiveName: GENERIC; VHDLIB_SIM: GENERIC_LIB; Published: 29-Jan-2004; Publisher: Altium Limited; LastRevisionNo: 1.00.00; HelpURL: CR0118 FPGA Generic Library Guide.pdf#page=130; ComponentLink1URL: CR0130 FPGA Counter Resource Usage.pdf#page=35; ComponentLink1Description: Core &Resource Usage; FunctionalClass: Counter; SubClass: Binary; Reset: Asynchronous; PortType: Bus Version
pins: C (in), CE (in), CEO (out), CLR (in), D[15..0] (in), L (in), Q[15..0] (out), TC (out)

## CB16CLEDB
designator U?
16-Bit Loadable Cascadable Bidirectional Binary Counter with Clock Enable and Asynchronous Clear, Bus Version; XilinxEquivalent: CB16CLED; ClockTrigger: Rising; Enable: High; Loadable: True; PortSize: 16; ArchiveName: GENERIC; VHDLIB_SIM: GENERIC_LIB; Published: 29-Jan-2004; Publisher: Altium Limited; LastRevisionNo: 1.00.00; HelpURL: CR0118 FPGA Generic Library Guide.pdf#page=132; ComponentLink1URL: CR0130 FPGA Counter Resource Usage.pdf#page=36; ComponentLink1Description: Core &Resource Usage; FunctionalClass: Counter; SubClass: Binary; Reset: Asynchronous; Direction: Bidirectional; PortType: Bus Version
pins: C (in), CE (in), CEO (out), CLR (in), D[15..0] (in), L (in), Q[15..0] (out), TC (out), UP (in)

## CB16CLEDS
designator U?
16-Bit Loadable Cascadable Bidirectional Binary Counter with Clock Enable and Asynchronous Clear, Single Pin Version; ClockTrigger: Rising; Enable: High; Loadable: True; PortSize: 16; ArchiveName: GENERIC; VHDLIB_SIM: GENERIC_LIB; Published: 29-Jan-2004; Publisher: Altium Limited; LastRevisionNo: 1.00.00; HelpURL: CR0118 FPGA Generic Library Guide.pdf#page=132; ComponentLink1URL: CR0130 FPGA Counter Resource Usage.pdf#page=37; ComponentLink1Description: Core &Resource Usage; FunctionalClass: Counter; SubClass: Binary; Reset: Asynchronous; Direction: Bidirectional; PortType: Single Pin Version
pins: C (in), CE (in), CEO (out), CLR (in), D0 (in), D1 (in), D2 (in), D3 (in), D4 (in), D5 (in), D6 (in), D7 (in), D8 (in), D9 (in), D10 (in), D11 (in), D12 (in), D13 (in), D14 (in), D15 (in), L (in), Q0 (out), Q1 (out), Q2 (out), Q3 (out), Q4 (out), Q5 (out), Q6 (out), Q7 (out), Q8 (out), Q9 (out), Q10 (out), Q11 (out), Q12 (out), Q13 (out), Q14 (out), Q15 (out), TC (out), UP (in)

## CB16CLES
designator U?
16-Bit Loadable Cascadable Binary Counters with Clock Enable and Asynchronous Clear, Single Pin Version; ClockTrigger: Rising; Enable: High; Loadable: True; PortSize: 16; ArchiveName: GENERIC; VHDLIB_SIM: GENERIC_LIB; Published: 29-Jan-2004; Publisher: Altium Limited; LastRevisionNo: 1.00.00; HelpURL: CR0118 FPGA Generic Library Guide.pdf#page=130; ComponentLink1URL: CR0130 FPGA Counter Resource Usage.pdf#page=38; ComponentLink1Description: Core &Resource Usage; FunctionalClass: Counter; SubClass: Binary; Reset: Asynchronous; PortType: Single Pin Version
pins: C (in), CE (in), CEO (out), CLR (in), D0 (in), D1 (in), D2 (in), D3 (in), D4 (in), D5 (in), D6 (in), D7 (in), D8 (in), D9 (in), D10 (in), D11 (in), D12 (in), D13 (in), D14 (in), D15 (in), L (in), Q0 (out), Q1 (out), Q2 (out), Q3 (out), Q4 (out), Q5 (out), Q6 (out), Q7 (out), Q8 (out), Q9 (out), Q10 (out), Q11 (out), Q12 (out), Q13 (out), Q14 (out), Q15 (out), TC (out)

## CB16REB
designator U?
16-Bit Cascadable Binary Counter with Clock Enable and Synchronous Reset, Bus Version; XilinxEquivalent: CB16RE; ClockTrigger: Rising; Enable: High; PortSize: 16; ArchiveName: GENERIC; VHDLIB_SIM: GENERIC_LIB; Published: 29-Jan-2004; Publisher: Altium Limited; LastRevisionNo: 1.00.00; HelpURL: CR0118 FPGA Generic Library Guide.pdf#page=134; ComponentLink1URL: CR0130 FPGA Counter Resource Usage.pdf#page=39; ComponentLink1Description: Core &Resource Usage; FunctionalClass: Counter; SubClass: Binary; Reset: Synchronous; PortType: Bus Version
pins: C (in), CE (in), CEO (out), Q[15..0] (out), R (in), TC (out)

## CB16RES
designator U?
16-Bit Cascadable Binary Counter with Clock Enable and Synchronous Reset, Single Pin Version; ClockTrigger: Rising; Enable: High; PortSize: 16; ArchiveName: GENERIC; VHDLIB_SIM: GENERIC_LIB; Published: 29-Jan-2004; Publisher: Altium Limited; LastRevisionNo: 1.00.00; HelpURL: CR0118 FPGA Generic Library Guide.pdf#page=134; ComponentLink1URL: CR0130 FPGA Counter Resource Usage.pdf#page=40; ComponentLink1Description: Core &Resource Usage; FunctionalClass: Counter; SubClass: Binary; Reset: Synchronous; PortType: Single Pin Version
pins: C (in), CE (in), CEO (out), Q0 (out), Q1 (out), Q2 (out), Q3 (out), Q4 (out), Q5 (out), Q6 (out), Q7 (out), Q8 (out), Q9 (out), Q10 (out), Q11 (out), Q12 (out), Q13 (out), Q14 (out), Q15 (out), R (in), TC (out)

## CB16RLEB
designator U?
16-Bit Loadable Cascadable Binary Counter with Clock Enable and Synchronous Reset, Bus Version; XilinxEquivalent: CB16RLE; ClockTrigger: Rising; Enable: High; Loadable: True; PortSize: 16; ArchiveName: GENERIC; VHDLIB_SIM: GENERIC_LIB; Published: 29-Jan-2004; Publisher: Altium Limited; LastRevisionNo: 1.00.00; HelpURL: CR0118 FPGA Generic Library Guide.pdf#page=136; ComponentLink1URL: CR0130 FPGA Counter Resource Usage.pdf#page=41; ComponentLink1Description: Core &Resource Usage; FunctionalClass: Counter; SubClass: Binary; Reset: Synchronous; PortType: Bus Version
pins: C (in), CE (in), CEO (out), D[15..0] (in), L (in), Q[15..0] (out), R (in), TC (out)

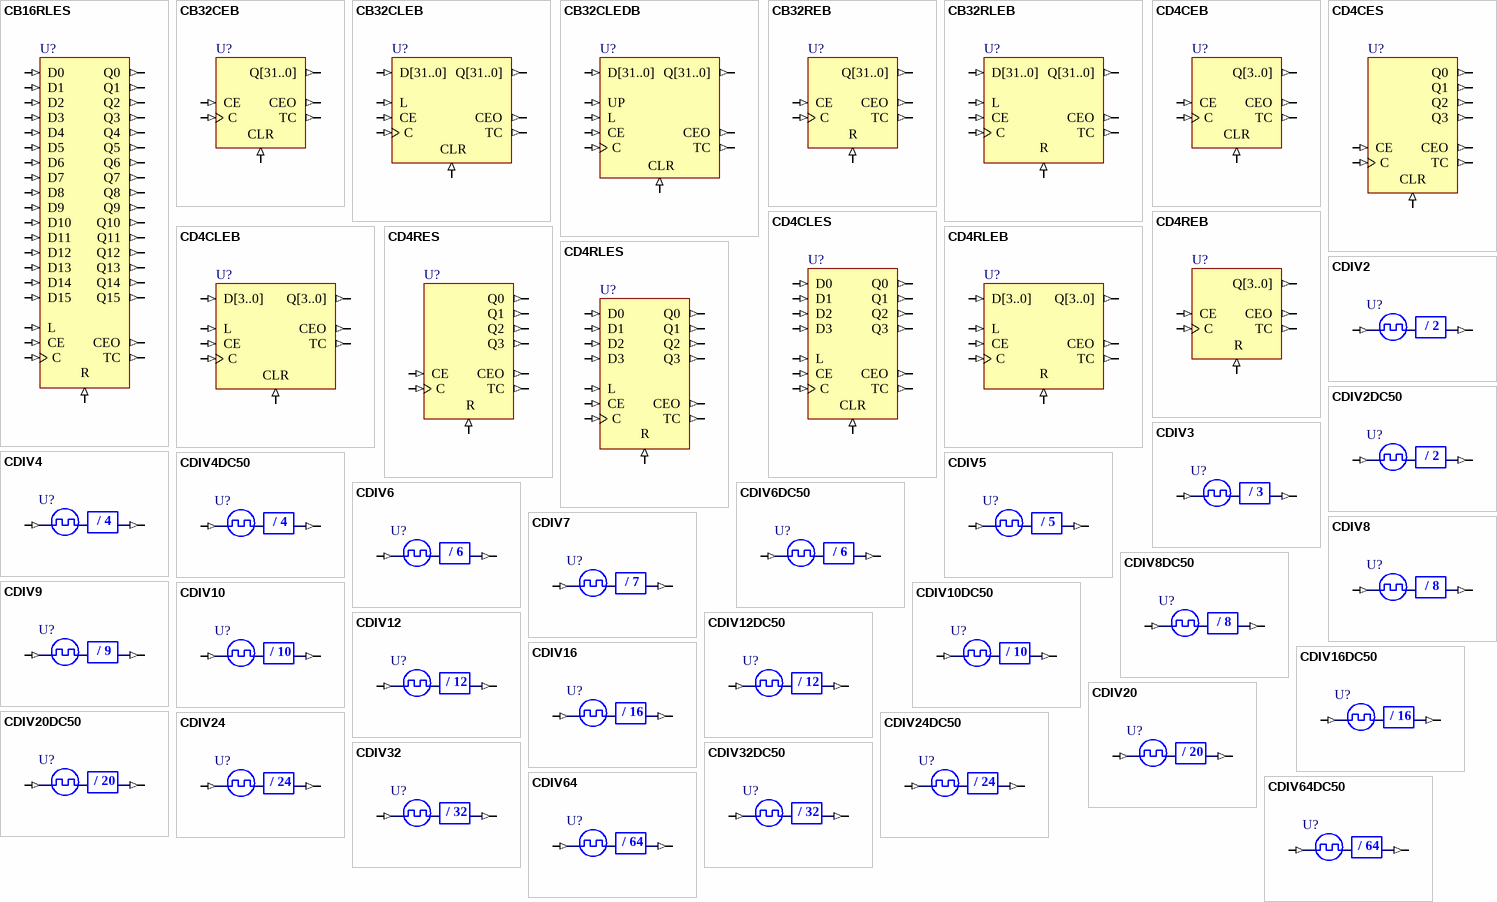
[diagram p6: symbols CB16RLES to CDIV64DC50]

## CB16RLES
designator U?
16-Bit Loadable Cascadable Binary Counter with Clock Enable and Synchronous Reset, Single Pin Version; ClockTrigger: Rising; Enable: High; Loadable: True; PortSize: 16; ArchiveName: GENERIC; VHDLIB_SIM: GENERIC_LIB; Published: 29-Jan-2004; Publisher: Altium Limited; LastRevisionNo: 1.00.00; HelpURL: CR0118 FPGA Generic Library Guide.pdf#page=136; ComponentLink1URL: CR0130 FPGA Counter Resource Usage.pdf#page=42; ComponentLink1Description: Core &Resource Usage; FunctionalClass: Counter; SubClass: Binary; Reset: Synchronous; PortType: Single Pin Version
pins: C (in), CE (in), CEO (out), D0 (in), D1 (in), D2 (in), D3 (in), D4 (in), D5 (in), D6 (in), D7 (in), D8 (in), D9 (in), D10 (in), D11 (in), D12 (in), D13 (in), D14 (in), D15 (in), L (in), Q0 (out), Q1 (out), Q2 (out), Q3 (out), Q4 (out), Q5 (out), Q6 (out), Q7 (out), Q8 (out), Q9 (out), Q10 (out), Q11 (out), Q12 (out), Q13 (out), Q14 (out), Q15 (out), R (in), TC (out)

## CB32CEB
designator U?
32-Bit Cascadable Binary Counters with Clock Enable and Asynchronous Clear, Bus Version; ClockTrigger: Rising; Enable: High; PortSize: 32; ArchiveName: GENERIC; VHDLIB_SIM: GENERIC_LIB; Published: 31-May-2004; Publisher: Altium Limited; LastRevisionNo: 1.00.00; HelpURL: CR0118 FPGA Generic Library Guide.pdf#page=128; ComponentLink1URL: CR0130 FPGA Counter Resource Usage.pdf#page=43; ComponentLink1Description: Core &Resource Usage; FunctionalClass: Counter; SubClass: Binary; Reset: Asynchronous; PortType: Bus Version
pins: C (in), CE (in), CEO (out), CLR (in), Q[31..0] (out), TC (out)

## CB32CLEB
designator U?
32-Bit Loadable Cascadable Binary Counters with Clock Enable and Asynchronous Clear, Bus Version; ClockTrigger: Rising; Enable: High; Loadable: True; PortSize: 32; ArchiveName: GENERIC; VHDLIB_SIM: GENERIC_LIB; Published: 31-May-2004; Publisher: Altium Limited; LastRevisionNo: 1.00.00; HelpURL: CR0118 FPGA Generic Library Guide.pdf#page=130; ComponentLink1URL: CR0130 FPGA Counter Resource Usage.pdf#page=44; ComponentLink1Description: Core &Resource Usage; FunctionalClass: Counter; SubClass: Binary; Reset: Asynchronous; PortType: Bus Version
pins: C (in), CE (in), CEO (out), CLR (in), D[31..0] (in), L (in), Q[31..0] (out), TC (out)

## CB32CLEDB
designator U?
32-Bit Loadable Cascadable Bidirectional Binary Counter with Clock Enable and Asynchronous Clear, Bus Version; ClockTrigger: Rising; Enable: High; Loadable: True; PortSize: 32; ArchiveName: GENERIC; VHDLIB_SIM: GENERIC_LIB; Published: 31-May-2004; Publisher: Altium Limited; LastRevisionNo: 1.00.00; HelpURL: CR0118 FPGA Generic Library Guide.pdf#page=132; ComponentLink1URL: CR0130 FPGA Counter Resource Usage.pdf#page=45; ComponentLink1Description: Core &Resource Usage; FunctionalClass: Counter; SubClass: Binary; Reset: Asynchronous; Direction: Bidirectional; PortType: Bus Version
pins: C (in), CE (in), CEO (out), CLR (in), D[31..0] (in), L (in), Q[31..0] (out), TC (out), UP (in)

## CB32REB
designator U?
32-Bit Cascadable Binary Counter with Clock Enable and Synchronous Reset, Bus Version; ClockTrigger: Rising; Enable: High; PortSize: 32; ArchiveName: GENERIC; VHDLIB_SIM: GENERIC_LIB; Published: 31-May-2004; Publisher: Altium Limited; LastRevisionNo: 1.00.00; HelpURL: CR0118 FPGA Generic Library Guide.pdf#page=134; ComponentLink1URL: CR0130 FPGA Counter Resource Usage.pdf#page=46; ComponentLink1Description: Core &Resource Usage; FunctionalClass: Counter; SubClass: Binary; Reset: Synchronous; PortType: Bus Version
pins: C (in), CE (in), CEO (out), Q[31..0] (out), R (in), TC (out)

## CB32RLEB
designator U?
32-Bit Loadable Cascadable Binary Counter with Clock Enable and Synchronous Reset, Bus Version; ClockTrigger: Rising; Enable: High; Loadable: True; PortSize: 32; ArchiveName: GENERIC; VHDLIB_SIM: GENERIC_LIB; Published: 31-May-2004; Publisher: Altium Limited; LastRevisionNo: 1.00.00; HelpURL: CR0118 FPGA Generic Library Guide.pdf#page=136; ComponentLink1URL: CR0130 FPGA Counter Resource Usage.pdf#page=47; ComponentLink1Description: Core &Resource Usage; FunctionalClass: Counter; SubClass: Binary; Reset: Synchronous; PortType: Bus Version
pins: C (in), CE (in), CEO (out), D[31..0] (in), L (in), Q[31..0] (out), R (in), TC (out)

## CD4CEB
designator U?
Cascadable BCD Counter with Clock Enable and Asynchronous Clear, Bus Version; ClockTrigger: Rising; Enable: High; PortSize: 4; ArchiveName: GENERIC; VHDLIB_SIM: GENERIC_LIB; Published: 29-Jan-2004; Publisher: Altium Limited; LastRevisionNo: 1.00.00; HelpURL: CR0118 FPGA Generic Library Guide.pdf#page=138; ComponentLink1URL: CR0130 FPGA Counter Resource Usage.pdf#page=48; ComponentLink1Description: Core &Resource Usage; FunctionalClass: Counter; SubClass: BCD; Reset: Asynchronous; PortType: Bus Version
pins: C (in), CE (in), CEO (out), CLR (in), Q[3..0] (out), TC (out)

## CD4CES
designator U?
Cascadable BCD Counter with Clock Enable and Asynchronous Clear, Single Pin Version; XilinxEquivalent: CD4CE; ClockTrigger: Rising; Enable: High; PortSize: 4; ArchiveName: GENERIC; VHDLIB_SIM: GENERIC_LIB; Published: 29-Jan-2004; Publisher: Altium Limited; LastRevisionNo: 1.00.00; HelpURL: CR0118 FPGA Generic Library Guide.pdf#page=138; ComponentLink1URL: CR0130 FPGA Counter Resource Usage.pdf#page=49; ComponentLink1Description: Core &Resource Usage; FunctionalClass: Counter; SubClass: BCD; Reset: Asynchronous; PortType: Single Pin Version
pins: C (in), CE (in), CEO (out), CLR (in), Q0 (out), Q1 (out), Q2 (out), Q3 (out), TC (out)

## CD4CLEB
designator U?
Loadable Cascadable BCD Counter with Clock Enable and Asynchronous Clear, Bus Version; ClockTrigger: Rising; Enable: High; Loadable: True; PortSize: 4; ArchiveName: GENERIC; VHDLIB_SIM: GENERIC_LIB; Published: 29-Jan-2004; Publisher: Altium Limited; LastRevisionNo: 1.00.00; HelpURL: CR0118 FPGA Generic Library Guide.pdf#page=139; ComponentLink1URL: CR0130 FPGA Counter Resource Usage.pdf#page=50; ComponentLink1Description: Core &Resource Usage; FunctionalClass: Counter; SubClass: BCD; Reset: Asynchronous; PortType: Bus Version
pins: C (in), CE (in), CEO (out), CLR (in), D[3..0] (in), L (in), Q[3..0] (out), TC (out)

## CD4CLES
designator U?
Loadable Cascadable BCD Counter with Clock Enable and Asynchronous Clear, Single Pin Version; XilinxEquivalent: CD4CLE; ClockTrigger: Rising; Enable: High; Loadable: True; PortSize: 4; ArchiveName: GENERIC; VHDLIB_SIM: GENERIC_LIB; Published: 29-Jan-2004; Publisher: Altium Limited; LastRevisionNo: 1.00.00; HelpURL: CR0118 FPGA Generic Library Guide.pdf#page=139; ComponentLink1URL: CR0130 FPGA Counter Resource Usage.pdf#page=51; ComponentLink1Description: Core &Resource Usage; FunctionalClass: Counter; SubClass: BCD; Reset: Asynchronous; PortType: Single Pin Version
pins: C (in), CE (in), CEO (out), CLR (in), D0 (in), D1 (in), D2 (in), D3 (in), L (in), Q0 (out), Q1 (out), Q2 (out), Q3 (out), TC (out)

## CD4REB
designator U?
Cascadable BCD Counter with Clock Enable and Synchronous Reset, Bus Version; ClockTrigger: Rising; Enable: High; PortSize: 4; ArchiveName: GENERIC; VHDLIB_SIM: GENERIC_LIB; Published: 29-Jan-2004; Publisher: Altium Limited; LastRevisionNo: 1.00.00; HelpURL: CR0118 FPGA Generic Library Guide.pdf#page=140; ComponentLink1URL: CR0130 FPGA Counter Resource Usage.pdf#page=52; ComponentLink1Description: Core &Resource Usage; FunctionalClass: Counter; SubClass: BCD; Reset: Synchronous; PortType: Bus Version
pins: C (in), CE (in), CEO (out), Q[3..0] (out), R (in), TC (out)